# Altium schematic symbol library USB_Controllers.schlib: 2 symbols
Pins are listed as number, name and electrical type; pins without a type are passive.

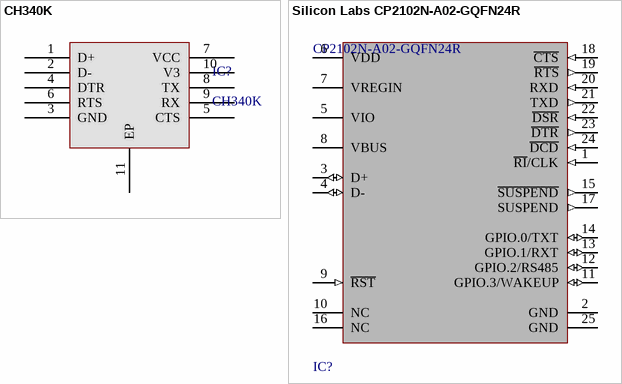
[diagram p0: symbols CH340K to Silicon Labs CP2102N-A02-GQFN24R]

## CH340K
designator IC?
USB to Serial Port Chip CH340
footprint ESOP-10L
pins: 1 D+, 2 D-, 3 GND, 4 DTR, 5 CTS, 6 RTS, 7 VCC, 8 TX, 9 RX, 10 V3, 11 EP

## Silicon Labs CP2102N-A02-GQFN24R
designator IC?, comment CP2102N-A02-GQFN24R
IC USB TO UART BRIDGE QFN24; Manufacturer Lifecycle Status: FULL PRODUCTION; NexarPartId: 99772192; Max Junction Temperature (Tj): 105°C; Min Supply Voltage: 1.71V; Max Supply Voltage: 3.6V; Number of Digital IO: 4; Interface: I2C, RS-485, UART, USB; Lifecycle Status: Production; Min Operating Temperature: -40°C; Height: 800µm; Ambient Temperature Range High: 85°C; Schedule B: 8542390000, 8542390000|8542390000|8542390000|8542390000|8542390000; Max Operating Temperature: 85°C; Supplier 1: Digikey; Supplier Part Number 1: 336-5888-1-ND; Supplier 2: Digikey; Supplier Part Number 2: 336-5888-6-ND; Supplier 3: Digikey; Supplier Part Number 3: 336-5888-2-ND; Supplier 4: Arrow Electronics; Supplier Part Number 4: CP2102N-A02-GQFN24R; Supplier 5: Farnell; Supplier Part Number 5: 3387002; Supplier 6: Farnell; Supplier Part Number 6: 3387002RL; Supplier 7: Mouser; Supplier Part Number 7: 634-CP2102NA02QFN24R; Supplier 8: Newark; Supplier Part Number 8: 66AH5403
footprint FP-CP2102N-A02-GQFN24R-IPC_C
pins: 1 ~{RI}/CLK (in), 2 GND (power), 3 D+ (io), 4 D- (io), 5 VIO (power), 6 VDD (power), 7 VREGIN (power), 8 VBUS (power), 9 ~{RST} (in), 10 NC, 11 GPIO.3/WAKEUP (io), 12 GPIO.2/RS485 (io), 13 GPIO.1/RXT (io), 14 GPIO.0/TXT (io), 15 ~{SUSPEND} (out), 16 NC, 17 SUSPEND (out), 18 ~{CTS} (in), 19 ~{RTS} (out), 20 RXD (in), 21 TXD (out), 22 ~{DSR} (in), 23 ~{DTR} (out), 24 ~{DCD} (in), 25 GND (power)